# EAGLE library part EPC2 (library altera)
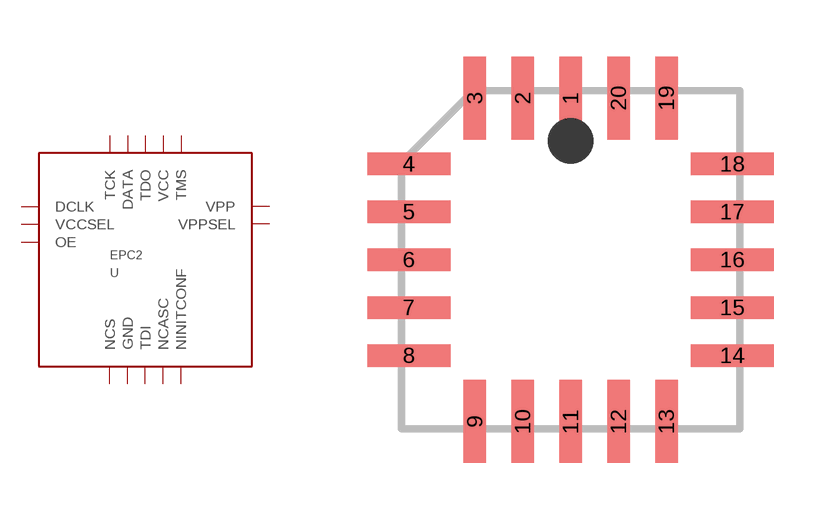
[diagram p63: symbol with the pads of PLCC20; footprint PLCC20]

Designator prefix -

## EPC2  [PLCC20]
1  TDO
2  DATA
3  TCK
4  DCLK
5  VCCSEL
8  OE
9  NCS
10  GND
11  TDI
12  NCASC
13  NINITCONF
14  VPPSEL
18  VPP
19  TMS
20  VCC

## Footprint PLCC20 (pad centres in mm)
smd 0.6 x 2.2: 1 0,4.29; 2 -1.27,4.29; 3 -2.54,4.29; 9 -2.54,-4.29; 10 -1.27,-4.29; 11 0,-4.29; 12 1.27,-4.29; 13 2.54,-4.29; 19 2.54,4.29; 20 1.27,4.29
smd 2.2 x 0.6: 4 -4.29,2.54; 5 -4.29,1.27; 6 -4.29,0; 7 -4.29,-1.27; 8 -4.29,-2.54; 14 4.29,-2.54; 15 4.29,-1.27; 16 4.29,0; 17 4.29,1.27; 18 4.29,2.54